# Altium integrated library ASVMB-100.000MHZ-LY-T.IntLib: 1 symbol
Pins are listed as number, name and electrical type; pins without a type are passive.

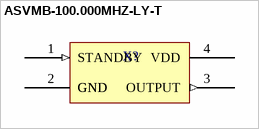
[diagram p0: symbol ASVMB-100.000MHZ-LY-T]

## ASVMB-100.000MHZ-LY-T
designator X?
footprint ASVMB-100.000MHZ-LY-T
pins: 1 STANDBY (in), 2 GND (power), 3 OUTPUT (out), 4 VDD (power), 5 GND (power)